# EAGLE library part XC7Z014S-1 (library ICs)
Single ARM® Cortex®-A9 MPCore™ with CoreSight™ System On Chip (SOC) IC Zynq®-7000 Artix™-7 FPGA, 65K Logic Cells 667MHz 484-CSPBGA (19x19)
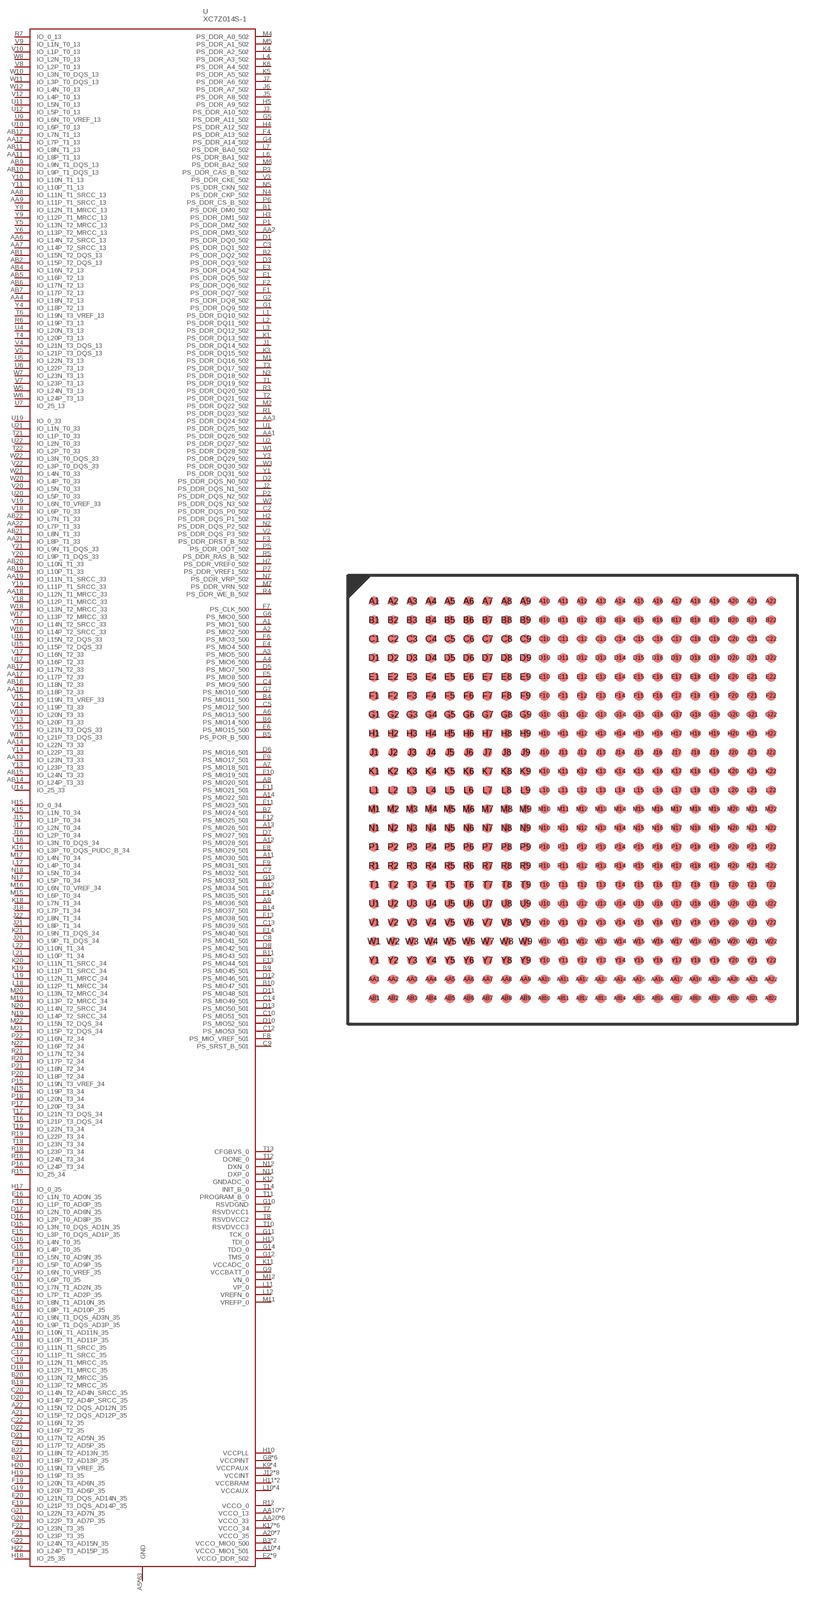
[diagram p321: symbol with the pads of CLG484; footprint CLG484]

Designator prefix U

## XC7Z014S-1CLG484C (DIGIKEY: 122-2027-ND; HEIGHT: 2.2; PRICE_PER: 122.93; VALUE: XC7Z014S-1CLG484C)  [CLG484]
A1  PS_MIO1_500
A2  PS_MIO2_500
A3  PS_MIO5_500
A4  PS_MIO6_500
A5  GND
A6  PS_MIO13_500
A7  PS_MIO18_501
A8  PS_MIO20_501
A9  PS_MIO36_501
A10  VCCO_MIO1_501
A11  PS_MIO30_501
A12  PS_MIO28_501
A13  PS_MIO26_501
A14  PS_MIO22_501
A15  GND
A16  IO_L9P_T1_DQS_AD3P_35
A17  IO_L9N_T1_DQS_AD3N_35
A18  IO_L10P_T1_AD11P_35
A19  IO_L10N_T1_AD11N_35
A20  VCCO_35
A21  IO_L15P_T2_DQS_AD12P_35
A22  IO_L15N_T2_DQS_AD12N_35
AA1  PS_DDR_DQ26_502
AA2  PS_DDR_DM3_502
AA3  PS_DDR_DQ24_502
AA4  IO_L18N_T2_13
AA5  GND
AA6  IO_L14N_T2_SRCC_13
AA7  IO_L14P_T2_SRCC_13
AA8  IO_L11N_T1_SRCC_13
AA9  IO_L11P_T1_SRCC_13
AA10  VCCO_13
AA11  IO_L8P_T1_13
AA12  IO_L7P_T1_13
AA13  IO_L23N_T3_33
AA14  IO_L22N_T3_33
AA15  GND
AA16  IO_L18P_T2_33
AA17  IO_L17P_T2_33
AA18  IO_L12N_T1_MRCC_33
AA19  IO_L11N_T1_SRCC_33
AA20  VCCO_33
AA21  IO_L8P_T1_33
AA22  IO_L7P_T1_33
AB1  IO_L15N_T2_DQS_13
AB2  IO_L15P_T2_DQS_13
AB3  VCCO_13
AB4  IO_L16N_T2_13
AB5  IO_L16P_T2_13
AB6  IO_L17N_T2_13
AB7  IO_L17P_T2_13
AB8  GND
AB9  IO_L9N_T1_DQS_13
AB10  IO_L9P_T1_DQS_13
AB11  IO_L8N_T1_13
AB12  IO_L7N_T1_13
AB13  VCCO_33
AB14  IO_L24P_T3_33
AB15  IO_L24N_T3_33
AB16  IO_L18N_T2_33
AB17  IO_L17N_T2_33
AB18  GND
AB19  IO_L10P_T1_33
AB20  IO_L10N_T1_33
AB21  IO_L8N_T1_33
AB22  IO_L7N_T1_33
B1  PS_DDR_DM0_502
B2  PS_DDR_DQ2_502
B3  VCCO_MIO0_500
B4  PS_MIO11_500
B5  PS_POR_B_500
B6  PS_MIO14_500
B7  PS_MIO24_501
B8  GND
B9  PS_MIO45_501
B10  PS_MIO47_501
B11  PS_MIO43_501
B12  PS_MIO34_501
B13  VCCO_MIO1_501
B14  PS_MIO37_501
B15  IO_L7N_T1_AD2N_35
B16  IO_L8P_T1_AD10P_35
B17  IO_L8N_T1_AD10N_35
B18  GND
B19  IO_L13P_T2_MRCC_35
B20  IO_L13N_T2_MRCC_35
B21  IO_L18P_T2_AD13P_35
B22  IO_L18N_T2_AD13N_35
C1  GND
C2  PS_DDR_DQS_P0_502
C3  PS_DDR_DQ1_502
C4  PS_MIO9_500
C5  PS_MIO12_500
C6  VCCO_MIO0_500
C7  PS_MIO32_501
C8  PS_MIO41_501
C9  PS_SRST_B_501
C10  PS_MIO51_501
C11  GND
C12  PS_MIO53_501
C13  PS_MIO39_501
C14  PS_MIO49_501
C15  IO_L7P_T1_AD2P_35
C16  VCCO_35
C17  IO_L11P_T1_SRCC_35
C18  IO_L11N_T1_SRCC_35
C19  IO_L12N_T1_MRCC_35
C20  IO_L14N_T2_AD4N_SRCC_35
C21  GND
C22  IO_L16N_T2_35
D1  PS_DDR_DQ0_502
D2  PS_DDR_DQS_N0_502
D3  PS_DDR_DQ3_502
D4  GND
D5  PS_MIO7_500
D6  PS_MIO16_501
D7  PS_MIO27_501
D8  PS_MIO42_501
D9  VCCO_MIO1_501
D10  PS_MIO52_501
D11  PS_MIO48_501
D12  PS_MIO46_501
D13  PS_MIO50_501
D14  GND
D15  IO_L3N_T0_DQS_AD1N_35
D16  IO_L2P_T0_AD8P_35
D17  IO_L2N_T0_AD8N_35
D18  IO_L12P_T1_MRCC_35
D19  VCCO_35
D20  IO_L14P_T2_AD4P_SRCC_35
D21  IO_L17N_T2_AD5N_35
D22  IO_L16P_T2_35
E1  PS_DDR_DQ5_502
E2  VCCO_DDR_502
E3  PS_DDR_DQ4_502
E4  PS_MIO4_500
E5  PS_MIO8_500
E6  PS_MIO15_500
E7  GND
E8  PS_MIO29_501
E9  PS_MIO17_501
E10  PS_MIO19_501
E11  PS_MIO23_501
E12  VCCO_MIO1_501
E13  PS_MIO44_501
E14  PS_MIO40_501
E15  IO_L3P_T0_DQS_AD1P_35
E16  IO_L1N_T0_AD0N_35
E17  GND
E18  IO_L5N_T0_AD9N_35
E19  IO_L21P_T3_DQS_AD14P_35
E20  IO_L21N_T3_DQS_AD14N_35
E21  IO_L17P_T2_AD5P_35
E22  VCCO_35
F1  PS_DDR_DQ7_502
F2  PS_DDR_DQ6_502
F3  PS_DDR_DRST_B_502
F4  PS_DDR_A13_502
F5  VCCO_DDR_502
F6  PS_MIO3_500
F7  PS_CLK_500
F8  PS_MIO_VREF_501
F9  PS_MIO31_501
F10  GND
F11  PS_MIO21_501
F12  PS_MIO25_501
F13  PS_MIO38_501
F14  PS_MIO35_501
F15  VCCO_35
F16  IO_L1P_T0_AD0P_35
F17  IO_L6N_T0_VREF_35
F18  IO_L5P_T0_AD9P_35
F19  IO_L20N_T3_AD6N_35
F20  GND
F21  IO_L23P_T3_35
F22  IO_L23N_T3_35
G1  PS_DDR_DQ9_502
G2  PS_DDR_DQ8_502
G3  GND
G4  PS_DDR_A14_502
G5  PS_DDR_A11_502
G6  PS_MIO0_500
G7  PS_MIO10_500
G8  VCCPINT
G9  VCCBATT_0
G10  RSVDGND
G11  TCK_0
G12  TMS_0
G13  PS_MIO33_501
G14  TDO_0
G15  IO_L4P_T0_35
G16  IO_L4N_T0_35
G17  IO_L6P_T0_35
G18  VCCO_35
G19  IO_L20P_T3_AD6P_35
G20  IO_L22P_T3_AD7P_35
G21  IO_L22N_T3_AD7N_35
G22  IO_L24N_T3_AD15N_35
H1  VCCO_DDR_502
H2  PS_DDR_DQS_P1_502
H3  PS_DDR_DM1_502
H4  PS_DDR_A12_502
H5  PS_DDR_A9_502
H6  GND
H7  PS_DDR_VREF0_502
H8  GND
H9  VCCPINT
H10  VCCPLL
H11  VCCBRAM
H12  GND
H13  TDI_0
H14  GND
H15  IO_0_34
H16  GND
H17  IO_0_35
H18  IO_25_35
H19  IO_L19P_T3_35
H20  IO_L19N_T3_VREF_35
H21  VCCO_35
H22  IO_L24P_T3_AD15P_35
J1  PS_DDR_DQ14_502
J2  PS_DDR_DQS_N1_502
J3  PS_DDR_A10_502
J4  VCCO_DDR_502
J5  PS_DDR_A8_502
J6  PS_DDR_A7_502
J7  PS_DDR_A6_502
J8  VCCPINT
J9  GND
J10  VCCBRAM
J11  GND
J12  VCCINT
J13  GND
J14  VCCINT
J15  IO_L1P_T0_34
J16  IO_L2P_T0_34
J17  IO_L2N_T0_34
J18  IO_L7P_T1_34
J19  GND
J20  IO_L9P_T1_DQS_34
J21  IO_L8P_T1_34
J22  IO_L8N_T1_34
K1  PS_DDR_DQ13_502
K2  GND
K3  PS_DDR_DQ15_502
K4  PS_DDR_A2_502
K5  PS_DDR_A5_502
K6  PS_DDR_A4_502
K7  VCCO_DDR_502
K8  GND
K9  VCCPAUX
K10  GND
K11  VCCADC_0
K12  GNDADC_0
K13  VCCINT
K14  GND
K15  IO_L1N_T0_34
K16  IO_L3P_T0_DQS_PUDC_B_34
K17  VCCO_34
K18  IO_L7N_T1_34
K19  IO_L11P_T1_SRCC_34
K20  IO_L11N_T1_SRCC_34
K21  IO_L9N_T1_DQS_34
K22  GND
L1  PS_DDR_DQ10_502
L2  PS_DDR_DQ11_502
L3  PS_DDR_DQ12_502
L4  PS_DDR_A3_502
L5  GND
L6  PS_DDR_BA1_502
L7  PS_DDR_BA0_502
L8  VCCPINT
L9  GND
L10  VCCAUX
L11  VP_0
L12  VREFN_0
L13  GND
L14  VCCINT
L15  GND
L16  IO_L3N_T0_DQS_34
L17  IO_L4P_T0_34
L18  IO_L12P_T1_MRCC_34
L19  IO_L12N_T1_MRCC_34
L20  VCCO_34
L21  IO_L10P_T1_34
L22  IO_L10N_T1_34
M1  PS_DDR_DQ16_502
M2  PS_DDR_DQ22_502
M3  VCCO_DDR_502
M4  PS_DDR_A0_502
M5  PS_DDR_A1_502
M6  PS_DDR_BA2_502
M7  PS_DDR_VRN_502
M8  GND
M9  VCCPAUX
M10  GND
M11  VREFP_0
M12  VN_0
M13  VCCINT
M14  GND
M15  IO_L6P_T0_34
M16  IO_L6N_T0_VREF_34
M17  IO_L4N_T0_34
M18  GND
M19  IO_L13P_T2_MRCC_34
M20  IO_L13N_T2_MRCC_34
M21  IO_L15P_T2_DQS_34
M22  IO_L15N_T2_DQS_34
N1  GND
N2  PS_DDR_DQS_P2_502
N3  PS_DDR_DQ18_502
N4  PS_DDR_CKP_502
N5  PS_DDR_CKN_502
N6  VCCO_DDR_502
N7  PS_DDR_VRP_502
N8  VCCPINT
N9  GND
N10  VCCAUX
N11  DXP_0
N12  DXN_0
N13  GND
N14  VCCINT
N15  IO_L19P_T3_34
N16  VCCO_34
N17  IO_L5P_T0_34
N18  IO_L5N_T0_34
N19  IO_L14P_T2_SRCC_34
N20  IO_L14N_T2_SRCC_34
N21  GND
N22  IO_L16P_T2_34
P1  PS_DDR_DM2_502
P2  PS_DDR_DQS_N2_502
P3  PS_DDR_CAS_B_502
P4  GND
P5  PS_DDR_ODT_502
P6  PS_DDR_CS_B_502
P7  PS_DDR_VREF1_502
P8  GND
P9  VCCPAUX
P10  GND
P11  VCCAUX
P12  GND
P13  VCCINT
P14  GND
P15  IO_L19N_T3_VREF_34
P16  IO_L24P_T3_34
P17  IO_L20P_T3_34
P18  IO_L20N_T3_34
P19  VCCO_34
P20  IO_L18P_T2_34
P21  IO_L18N_T2_34
P22  IO_L16N_T2_34
R1  PS_DDR_DQ23_502
R2  VCCO_DDR_502
R3  PS_DDR_DQ20_502
R4  PS_DDR_WE_B_502
R5  PS_DDR_RAS_B_502
R6  IO_L19P_T3_13
R7  IO_0_13
R8  VCCPINT
R9  GND
R10  VCCAUX
R11  GND
R12  VCCO_0
R13  GND
R14  VCCINT
R15  IO_25_34
R16  IO_L24N_T3_34
R17  GND
R18  IO_L23P_T3_34
R19  IO_L22P_T3_34
R20  IO_L17P_T2_34
R21  IO_L17N_T2_34
R22  VCCO_34
T1  PS_DDR_DQ19_502
T2  PS_DDR_DQ21_502
T3  PS_DDR_DQ17_502
T4  IO_L20P_T3_13
T5  VCCO_13
T6  IO_L19N_T3_VREF_13
T7  RSVDVCC1
T8  RSVDVCC2
T9  VCCPAUX
T10  RSVDVCC3
T11  PROGRAM_B_0
T12  DONE_0
T13  CFGBVS_0
T14  INIT_B_0
T15  VCCO_34
T16  IO_L21P_T3_DQS_34
T17  IO_L21N_T3_DQS_34
T18  IO_L23N_T3_34
T19  IO_L22N_T3_34
T20  GND
T21  IO_L1P_T0_33
T22  IO_L2P_T0_33
U1  PS_DDR_DQ25_502
U2  PS_DDR_DQ27_502
U3  GND
U4  IO_L20N_T3_13
U5  IO_L22N_T3_13
U6  IO_L22P_T3_13
U7  IO_25_13
U8  VCCO_13
U9  IO_L6N_T0_VREF_13
U10  IO_L6P_T0_13
U11  IO_L5N_T0_13
U12  IO_L5P_T0_13
U13  GND
U14  IO_25_33
U15  IO_L15P_T2_DQS_33
U16  IO_L15N_T2_DQS_33
U17  IO_L16P_T2_33
U18  VCCO_33
U19  IO_0_33
U20  IO_L5P_T0_33
U21  IO_L1N_T0_33
U22  IO_L2N_T0_33
V1  VCCO_DDR_502
V2  PS_DDR_DQS_P3_502
V3  PS_DDR_CKE_502
V4  IO_L21N_T3_DQS_13
V5  IO_L21P_T3_DQS_13
V6  GND
V7  IO_L23P_T3_13
V8  IO_L2P_T0_13
V9  IO_L1N_T0_13
V10  IO_L1P_T0_13
V11  VCCO_13
V12  IO_L4P_T0_13
V13  IO_L20P_T3_33
V14  IO_L19P_T3_33
V15  IO_L19N_T3_VREF_33
V16  GND
V17  IO_L16N_T2_33
V18  IO_L6P_T0_33
V19  IO_L6N_T0_VREF_33
V20  IO_L5N_T0_33
V21  VCCO_33
V22  IO_L3P_T0_DQS_33
W1  PS_DDR_DQ28_502
W2  PS_DDR_DQS_N3_502
W3  PS_DDR_DQ30_502
W4  VCCO_13
W5  IO_L24N_T3_13
W6  IO_L24P_T3_13
W7  IO_L23N_T3_13
W8  IO_L2N_T0_13
W9  GND
W10  IO_L3N_T0_DQS_13
W11  IO_L3P_T0_DQS_13
W12  IO_L4N_T0_13
W13  IO_L20N_T3_33
W14  VCCO_33
W15  IO_L21P_T3_DQS_33
W16  IO_L14P_T2_SRCC_33
W17  IO_L13P_T2_MRCC_33
W18  IO_L13N_T2_MRCC_33
W19  GND
W20  IO_L4P_T0_33
W21  IO_L4N_T0_33
W22  IO_L3N_T0_DQS_33
Y1  PS_DDR_DQ31_502
Y2  GND
Y3  PS_DDR_DQ29_502
Y4  IO_L18P_T2_13
Y5  IO_L13N_T2_MRCC_13
Y6  IO_L13P_T2_MRCC_13
Y7  VCCO_13
Y8  IO_L12N_T1_MRCC_13
Y9  IO_L12P_T1_MRCC_13
Y10  IO_L10N_T1_13
Y11  IO_L10P_T1_13
Y12  GND
Y13  IO_L23P_T3_33
Y14  IO_L22P_T3_33
Y15  IO_L21N_T3_DQS_33
Y16  IO_L14N_T2_SRCC_33
Y17  VCCO_33
Y18  IO_L12P_T1_MRCC_33
Y19  IO_L11P_T1_SRCC_33
Y20  IO_L9P_T1_DQS_33
Y21  IO_L9N_T1_DQS_33
Y22  GND

## Footprint CLG484 (pad centres in mm)
smd 0.4 x 0.4: A1 -8.4,8.4; A2 -7.6,8.4; A3 -6.8,8.4; A4 -6,8.4; A5 -5.2,8.4; A6 -4.4,8.4; A7 -3.6,8.4; A8 -2.8,8.4; A9 -2,8.4; A10 -1.2,8.4; A11 -0.4,8.4; A12 0.4,8.4; A13 1.2,8.4; A14 2,8.4; A15 2.8,8.4; A16 3.6,8.4; A17 4.4,8.4; A18 5.2,8.4; A19 6,8.4; A20 6.8,8.4; A21 7.6,8.4; A22 8.4,8.4; AA1 -8.4,-7.6; AA2 -7.6,-7.6; AA3 -6.8,-7.6; AA4 -6,-7.6; AA5 -5.2,-7.6; AA6 -4.4,-7.6; AA7 -3.6,-7.6; AA8 -2.8,-7.6; AA9 -2,-7.6; AA10 -1.2,-7.6; AA11 -0.4,-7.6; AA12 0.4,-7.6; AA13 1.2,-7.6; AA14 2,-7.6; AA15 2.8,-7.6; AA16 3.6,-7.6; AA17 4.4,-7.6; AA18 5.2,-7.6; AA19 6,-7.6; AA20 6.8,-7.6; AA21 7.6,-7.6; AA22 8.4,-7.6; AB1 -8.4,-8.4; AB2 -7.6,-8.4; AB3 -6.8,-8.4; AB4 -6,-8.4; AB5 -5.2,-8.4; AB6 -4.4,-8.4; AB7 -3.6,-8.4; AB8 -2.8,-8.4; AB9 -2,-8.4; AB10 -1.2,-8.4; AB11 -0.4,-8.4; AB12 0.4,-8.4; AB13 1.2,-8.4; AB14 2,-8.4; AB15 2.8,-8.4; AB16 3.6,-8.4; AB17 4.4,-8.4; AB18 5.2,-8.4; AB19 6,-8.4; AB20 6.8,-8.4; AB21 7.6,-8.4; AB22 8.4,-8.4; B1 -8.4,7.6; B2 -7.6,7.6; B3 -6.8,7.6; B4 -6,7.6; B5 -5.2,7.6; B6 -4.4,7.6; B7 -3.6,7.6; B8 -2.8,7.6; B9 -2,7.6; B10 -1.2,7.6; B11 -0.4,7.6; B12 0.4,7.6; B13 1.2,7.6; B14 2,7.6; B15 2.8,7.6; B16 3.6,7.6; B17 4.4,7.6; B18 5.2,7.6; B19 6,7.6; B20 6.8,7.6; B21 7.6,7.6; B22 8.4,7.6; C1 -8.4,6.8; C2 -7.6,6.8; C3 -6.8,6.8; C4 -6,6.8; C5 -5.2,6.8; C6 -4.4,6.8; C7 -3.6,6.8; C8 -2.8,6.8; C9 -2,6.8; C10 -1.2,6.8; C11 -0.4,6.8; C12 0.4,6.8; C13 1.2,6.8; C14 2,6.8; C15 2.8,6.8; C16 3.6,6.8; C17 4.4,6.8; C18 5.2,6.8; C19 6,6.8; C20 6.8,6.8; C21 7.6,6.8; C22 8.4,6.8; D1 -8.4,6; D2 -7.6,6; D3 -6.8,6; D4 -6,6; D5 -5.2,6; D6 -4.4,6; D7 -3.6,6; D8 -2.8,6; D9 -2,6; D10 -1.2,6; D11 -0.4,6; D12 0.4,6; D13 1.2,6; D14 2,6; D15 2.8,6; D16 3.6,6; D17 4.4,6; D18 5.2,6; D19 6,6; D20 6.8,6; D21 7.6,6; D22 8.4,6; E1 -8.4,5.2; E2 -7.6,5.2; E3 -6.8,5.2; E4 -6,5.2; E5 -5.2,5.2; E6 -4.4,5.2; E7 -3.6,5.2; E8 -2.8,5.2; E9 -2,5.2; E10 -1.2,5.2; E11 -0.4,5.2; E12 0.4,5.2; E13 1.2,5.2; E14 2,5.2; E15 2.8,5.2; E16 3.6,5.2; E17 4.4,5.2; E18 5.2,5.2; E19 6,5.2; E20 6.8,5.2; E21 7.6,5.2; E22 8.4,5.2; F1 -8.4,4.4; F2 -7.6,4.4; F3 -6.8,4.4; F4 -6,4.4; F5 -5.2,4.4; F6 -4.4,4.4; F7 -3.6,4.4; F8 -2.8,4.4; F9 -2,4.4; F10 -1.2,4.4; F11 -0.4,4.4; F12 0.4,4.4; F13 1.2,4.4; F14 2,4.4; F15 2.8,4.4; F16 3.6,4.4; F17 4.4,4.4; F18 5.2,4.4; F19 6,4.4; F20 6.8,4.4; F21 7.6,4.4; F22 8.4,4.4; G1 -8.4,3.6; G2 -7.6,3.6; G3 -6.8,3.6; G4 -6,3.6; G5 -5.2,3.6; G6 -4.4,3.6; G7 -3.6,3.6; G8 -2.8,3.6; G9 -2,3.6; G10 -1.2,3.6; G11 -0.4,3.6; G12 0.4,3.6; G13 1.2,3.6; G14 2,3.6; G15 2.8,3.6; G16 3.6,3.6; G17 4.4,3.6; G18 5.2,3.6; G19 6,3.6; G20 6.8,3.6; G21 7.6,3.6; G22 8.4,3.6; H1 -8.4,2.8; H2 -7.6,2.8; H3 -6.8,2.8; H4 -6,2.8; H5 -5.2,2.8; H6 -4.4,2.8; H7 -3.6,2.8; H8 -2.8,2.8; H9 -2,2.8; H10 -1.2,2.8; H11 -0.4,2.8; H12 0.4,2.8; H13 1.2,2.8; H14 2,2.8; H15 2.8,2.8; H16 3.6,2.8; H17 4.4,2.8; H18 5.2,2.8; H19 6,2.8; H20 6.8,2.8; H21 7.6,2.8; H22 8.4,2.8; J1 -8.4,2; J2 -7.6,2; J3 -6.8,2; J4 -6,2; J5 -5.2,2; J6 -4.4,2; J7 -3.6,2; J8 -2.8,2; J9 -2,2; J10 -1.2,2; J11 -0.4,2; J12 0.4,2; J13 1.2,2; J14 2,2; J15 2.8,2; J16 3.6,2; J17 4.4,2; J18 5.2,2; J19 6,2; J20 6.8,2; J21 7.6,2; J22 8.4,2; K1 -8.4,1.2; K2 -7.6,1.2; K3 -6.8,1.2; K4 -6,1.2; K5 -5.2,1.2; K6 -4.4,1.2; K7 -3.6,1.2; K8 -2.8,1.2; K9 -2,1.2; K10 -1.2,1.2; K11 -0.4,1.2; K12 0.4,1.2; K13 1.2,1.2; K14 2,1.2; K15 2.8,1.2; K16 3.6,1.2; K17 4.4,1.2; K18 5.2,1.2; K19 6,1.2; K20 6.8,1.2; K21 7.6,1.2; K22 8.4,1.2; L1 -8.4,0.4; L2 -7.6,0.4; L3 -6.8,0.4; L4 -6,0.4; L5 -5.2,0.4; L6 -4.4,0.4; L7 -3.6,0.4; L8 -2.8,0.4; L9 -2,0.4; L10 -1.2,0.4; L11 -0.4,0.4; L12 0.4,0.4; L13 1.2,0.4; L14 2,0.4; L15 2.8,0.4; L16 3.6,0.4; L17 4.4,0.4; L18 5.2,0.4; L19 6,0.4; L20 6.8,0.4; L21 7.6,0.4; L22 8.4,0.4; M1 -8.4,-0.4; M2 -7.6,-0.4; M3 -6.8,-0.4; M4 -6,-0.4; M5 -5.2,-0.4; M6 -4.4,-0.4; M7 -3.6,-0.4; M8 -2.8,-0.4; M9 -2,-0.4; M10 -1.2,-0.4; M11 -0.4,-0.4; M12 0.4,-0.4; M13 1.2,-0.4; M14 2,-0.4; M15 2.8,-0.4; M16 3.6,-0.4; M17 4.4,-0.4; M18 5.2,-0.4; M19 6,-0.4; M20 6.8,-0.4; M21 7.6,-0.4; M22 8.4,-0.4; N1 -8.4,-1.2; N2 -7.6,-1.2; N3 -6.8,-1.2; N4 -6,-1.2; N5 -5.2,-1.2; N6 -4.4,-1.2; N7 -3.6,-1.2; N8 -2.8,-1.2; N9 -2,-1.2; N10 -1.2,-1.2; N11 -0.4,-1.2; N12 0.4,-1.2; N13 1.2,-1.2; N14 2,-1.2; N15 2.8,-1.2; N16 3.6,-1.2; N17 4.4,-1.2; N18 5.2,-1.2; N19 6,-1.2; N20 6.8,-1.2; N21 7.6,-1.2; N22 8.4,-1.2; P1 -8.4,-2; P2 -7.6,-2; P3 -6.8,-2; P4 -6,-2; P5 -5.2,-2; P6 -4.4,-2; P7 -3.6,-2; P8 -2.8,-2; P9 -2,-2; P10 -1.2,-2; P11 -0.4,-2; P12 0.4,-2; P13 1.2,-2; P14 2,-2; P15 2.8,-2; P16 3.6,-2; P17 4.4,-2; P18 5.2,-2; P19 6,-2; P20 6.8,-2; P21 7.6,-2; P22 8.4,-2; R1 -8.4,-2.8; R2 -7.6,-2.8; R3 -6.8,-2.8; R4 -6,-2.8; R5 -5.2,-2.8; R6 -4.4,-2.8; R7 -3.6,-2.8; R8 -2.8,-2.8; R9 -2,-2.8; R10 -1.2,-2.8; R11 -0.4,-2.8; R12 0.4,-2.8; R13 1.2,-2.8; R14 2,-2.8; R15 2.8,-2.8; R16 3.6,-2.8; R17 4.4,-2.8; R18 5.2,-2.8; R19 6,-2.8; R20 6.8,-2.8; R21 7.6,-2.8; R22 8.4,-2.8; T1 -8.4,-3.6; T2 -7.6,-3.6; T3 -6.8,-3.6; T4 -6,-3.6; T5 -5.2,-3.6; T6 -4.4,-3.6; T7 -3.6,-3.6; T8 -2.8,-3.6; T9 -2,-3.6; T10 -1.2,-3.6; T11 -0.4,-3.6; T12 0.4,-3.6; T13 1.2,-3.6; T14 2,-3.6; T15 2.8,-3.6; T16 3.6,-3.6; T17 4.4,-3.6; T18 5.2,-3.6; T19 6,-3.6; T20 6.8,-3.6; T21 7.6,-3.6; T22 8.4,-3.6; U1 -8.4,-4.4; U2 -7.6,-4.4; U3 -6.8,-4.4; U4 -6,-4.4; U5 -5.2,-4.4; U6 -4.4,-4.4; U7 -3.6,-4.4; U8 -2.8,-4.4; U9 -2,-4.4; U10 -1.2,-4.4; U11 -0.4,-4.4; U12 0.4,-4.4; U13 1.2,-4.4; U14 2,-4.4; U15 2.8,-4.4; U16 3.6,-4.4; U17 4.4,-4.4; U18 5.2,-4.4; U19 6,-4.4; U20 6.8,-4.4; U21 7.6,-4.4; U22 8.4,-4.4; V1 -8.4,-5.2; V2 -7.6,-5.2; V3 -6.8,-5.2; V4 -6,-5.2; V5 -5.2,-5.2; V6 -4.4,-5.2; V7 -3.6,-5.2; V8 -2.8,-5.2; V9 -2,-5.2; V10 -1.2,-5.2; V11 -0.4,-5.2; V12 0.4,-5.2; V13 1.2,-5.2; V14 2,-5.2; V15 2.8,-5.2; V16 3.6,-5.2; V17 4.4,-5.2; V18 5.2,-5.2; V19 6,-5.2; V20 6.8,-5.2; V21 7.6,-5.2; V22 8.4,-5.2; W1 -8.4,-6; W2 -7.6,-6; W3 -6.8,-6; W4 -6,-6; W5 -5.2,-6; W6 -4.4,-6; W7 -3.6,-6; W8 -2.8,-6; W9 -2,-6; W10 -1.2,-6; W11 -0.4,-6; W12 0.4,-6; W13 1.2,-6; W14 2,-6; W15 2.8,-6; W16 3.6,-6; W17 4.4,-6; W18 5.2,-6; W19 6,-6; W20 6.8,-6; W21 7.6,-6; W22 8.4,-6; Y1 -8.4,-6.8; Y2 -7.6,-6.8; Y3 -6.8,-6.8; Y4 -6,-6.8; Y5 -5.2,-6.8; Y6 -4.4,-6.8; Y7 -3.6,-6.8; Y8 -2.8,-6.8; Y9 -2,-6.8; Y10 -1.2,-6.8; Y11 -0.4,-6.8; Y12 0.4,-6.8; Y13 1.2,-6.8; Y14 2,-6.8; Y15 2.8,-6.8; Y16 3.6,-6.8; Y17 4.4,-6.8; Y18 5.2,-6.8; Y19 6,-6.8; Y20 6.8,-6.8; Y21 7.6,-6.8; Y22 8.4,-6.8